# Altium footprint library Capacitors THD.PcbLib: 270 footprints (part 3 of 17)
Each footprint in its own frame and in the unit in brackets; x right, y up, seen from the top. Pads: shape width x height; smd on the part's side, far side on the other; paste and mask are expansions set on the pad; w line width, h text height; cw(c..) or ccw(c..) is an arc to the next point about the centre after c.
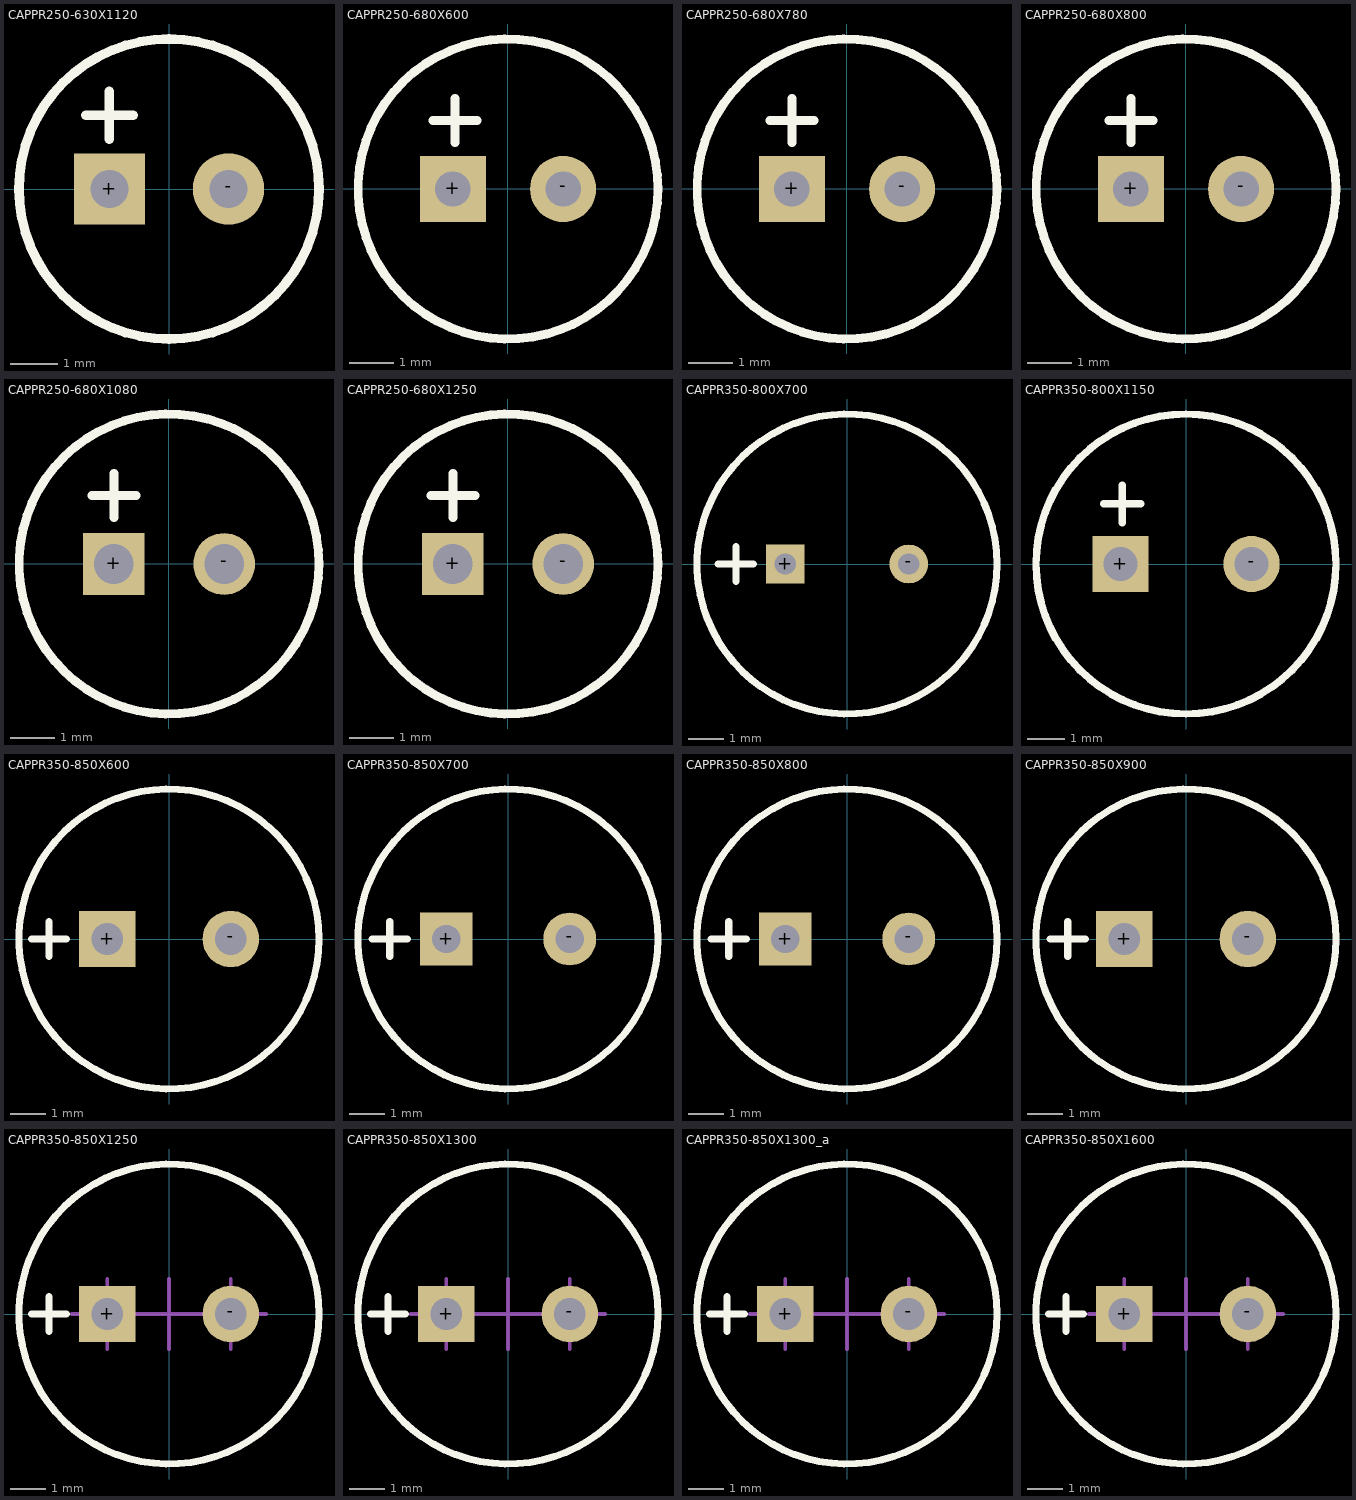
[diagram p2: the footprints below, top view; thin cyan lines are the x and y axes]

## CAPPR250-630X1120 [mm] "Capacitor, Radial, Pin spacing 2.5mm - Body Diameter 6.3mm X Body Height 11.2mm"
height 11.2
pads (2):
  rect 1.5x1.5 hole 0.8: +(-1.25,0)
  round 1.5 hole 0.8: -(1.25,0)
Top Overlay:
  circle w0.2: c0,0 r3.15
  lines w0.2: -1.75,1.55 -0.75,1.55 ; -1.25,1.05 -1.25,2.05
Mechanical 13:
  circle w0.1: c0,0 r3.15
Mechanical 14:
  circle w0.1: c0,0 r3.15
  lines w0.1: -1.75,1.55 -0.75,1.55 ; -1.25,1.05 -1.25,2.05
3D body "CAPPR250-630X1120.stp": height 11.2, standoff -3.6, extent -3.159,-3.159 3.141,3.107

## CAPPR250-680X600 [mm] "Capacitor, Radial, Pin spacing 2.5mm - Body Diameter 6.8mm X Body Height 6.0mm"
height 6
pads (2):
  rect 1.5x1.5 hole 0.8: +(-1.25,0)
  round 1.5 hole 0.8: -(1.25,0)
Top Overlay:
  circle w0.2: c0,0 r3.4
  lines w0.2: -1.7,1.55 -0.7,1.55 ; -1.2,1.05 -1.2,2.05
Mechanical 13:
  circle w0.1: c0,0 r3.4
Mechanical 14:
  circle w0.1: c0,0 r3.4
  lines w0.1: -1.7,1.55 -0.7,1.55 ; -1.2,1.05 -1.2,2.05
3D body "CAPPR250-680X600.stp": height 6, standoff -3.6, extent -3.41,-3.41 3.39,3.39

## CAPPR250-680X780 [mm] "Capacitor, Radial, Pin spacing 2.5mm - Body Diameter 6.8mm X Body Height 7.8mm"
height 7.8
pads (2):
  rect 1.5x1.5 hole 0.8: +(-1.25,0)
  round 1.5 hole 0.8: -(1.25,0)
Top Overlay:
  circle w0.2: c0,0 r3.4
  lines w0.2: -1.75,1.55 -0.75,1.55 ; -1.25,1.05 -1.25,2.05
Mechanical 13:
  circle w0.1: c0,0 r3.4
Mechanical 14:
  circle w0.1: c0,0 r3.4
  lines w0.1: -1.75,1.55 -0.75,1.55 ; -1.25,1.05 -1.25,2.05
3D body "CAPPR250-680X780.stp": height 7.8, standoff -3.6, extent -3.41,-3.41 3.39,3.39

## CAPPR250-680X800 [mm] "Capacitor, Radial, Pin spacing 2.5mm - Body Diameter 6.8mm X Body Height 7mm"
height 8
pads (2):
  rect 1.5x1.5 hole 0.8: +(-1.25,0)
  round 1.5 hole 0.8: -(1.25,0)
Top Overlay:
  circle w0.2: c0,0 r3.4
  lines w0.2: -1.75,1.55 -0.75,1.55 ; -1.25,1.05 -1.25,2.05
Mechanical 13:
  circle w0.1: c0,0 r3.4
Mechanical 14:
  circle w0.1: c0,0 r3.4
  lines w0.1: -1.75,1.55 -0.75,1.55 ; -1.25,1.05 -1.25,2.05
3D body "CAPPR250-680X800.stp": height 8, standoff -3.6, extent -3.4,-3.4 3.4,3.4

## CAPPR250-680X1080 [mm] "Capacitor, Radial, Pin spacing 2.5mm - Body Diameter 6.8mm X Body Height 10.8mm"
height 10.8
pads (2):
  rect 1.4x1.4 hole 0.9: +(-1.25,0)
  round 1.4 hole 0.9: -(1.25,0)
Top Overlay:
  circle w0.2: c0,0 r3.4
  lines w0.2: -1.75,1.55 -0.75,1.55 ; -1.25,1.05 -1.25,2.05
Mechanical 13:
  circle w0.1: c0,0 r3.4
Mechanical 14:
  circle w0.1: c0,0 r3.4
  lines w0.1: -1.75,1.55 -0.75,1.55 ; -1.25,1.05 -1.25,2.05
3D body "CAPPR250-680X1080.stp": height 10.8, standoff -3.6, extent -3.41,-3.41 3.39,3.39

## CAPPR250-680X1250 [mm] "Capacitor, Radial, Pin spacing 2.5mm - Body Diameter 6.8mm X Body Height 12.5mm"
height 12.5
pads (2):
  rect 1.4x1.4 hole 0.9: +(-1.25,0)
  round 1.4 hole 0.9: -(1.25,0)
Top Overlay:
  circle w0.2: c0,0 r3.4
  lines w0.2: -1.75,1.55 -0.75,1.55 ; -1.25,1.05 -1.25,2.05
Mechanical 13:
  circle w0.1: c0,0 r3.4
Mechanical 14:
  circle w0.1: c0,0 r3.4
  lines w0.1: -1.75,1.55 -0.75,1.55 ; -1.25,1.05 -1.25,2.05
3D body "CAPPR250-680X1250.stp": height 12.5, standoff -3.6, extent -3.41,-3.408 3.39,3.388

## CAPPR350-800X700 [mm] "Capacitor, Radial, Pin spacing 3.5mm - Body Diameter 8mm X Body Height 7mm"
height 7
pads (2):
  rect 1.1x1.1 hole 0.6: +(-1.75,0)
  round 1.1 hole 0.6: -(1.75,0)
Top Overlay:
  circle w0.2: c0,0 r4.25
  lines w0.2: -3.65,0 -2.65,0 ; -3.15,-0.5 -3.15,0.5
Mechanical 13:
  circle w0.1: c0,0 r4.25
Mechanical 14:
  circle w0.1: c0,0 r4.25
  lines w0.1: -3.65,0 -2.65,0 ; -3.15,-0.5 -3.15,0.5
3D body "CAPPR350-800X700.stp": height 7, standoff -3.6, extent -4.259,-4.259 4.241,4.233

## CAPPR350-800X1150 [mm] "Capacitor, Radial, Pin spacing 3.5mm - Body Diameter 8.0mm X Body Height 11.5mm"
height 11.5
pads (2):
  rect 1.5x1.5 hole 0.9: +(-1.75,0)
  round 1.5 hole 0.9: -(1.75,0)
Top Overlay:
  circle w0.2: c0,0 r4
  lines w0.2: -2.2,1.6 -1.2,1.6 ; -1.7,1.1 -1.7,2.1
Mechanical 13:
  circle w0.1: c0,0 r4
Mechanical 14:
  circle w0.1: c0,0 r4
  lines w0.1: -2.2,1.6 -1.2,1.6 ; -1.7,1.1 -1.7,2.1
3D body "CAPPR350-800X1150.stp": height 11.5, standoff -3.6, extent -4.012,-4.012 3.988,3.954

## CAPPR350-850X600 [mm] "Capacitor, Radial, Pin spacing 3.5mm - Body Diameter 8.5mm X Body Height 6.0mm"
height 6
pads (2):
  rect 1.6x1.6 hole 0.9: +(-1.75,0)
  round 1.6 hole 0.9: -(1.75,0)
Top Overlay:
  circle w0.2: c0,0 r4.25
  lines w0.2: -3.9,0 -2.9,0 ; -3.4,-0.5 -3.4,0.5
Mechanical 13:
  circle w0.1: c0,0 r4.25
Mechanical 14:
  circle w0.1: c0,0 r4.25
  lines w0.1: -3.9,0 -2.9,0 ; -3.4,-0.5 -3.4,0.5
3D body "CAPPR350-850X600.stp": height 6, standoff -3.6, extent -4.259,-4.259 4.241,4.241

## CAPPR350-850X700 [mm] "Capacitor, Radial, Pin spacing 3.5mm - Body Diameter 8.5mm x Body Height 7.0mm"
height 7
pads (2):
  rect 1.5x1.5 hole 0.8: +(-1.75,0)
  round 1.5 hole 0.8: -(1.75,0)
Top Overlay:
  circle w0.2: c0,0 r4.25
  lines w0.2: -3.85,0 -2.85,0 ; -3.35,-0.5 -3.35,0.5
Mechanical 8:
  circle w0.1: c-1.75,0 r0.225
  circle w0.1: c1.75,0 r0.225
  lines w0.1: -1.975,0 -1.75,0 -1.75,-0.225 ; 1.525,0 1.75,0 1.75,-0.225
Mechanical 14:
  circle w0.1: c0,0 r4.25
  lines w0.1: -3.85,0 -2.85,0 ; -3.35,-0.5 -3.35,0.5
3D body "CAPPR350-850X700.stp": height 7, standoff -3.6, extent -4.25,-4.25 4.25,4.242

## CAPPR350-850X800 [mm] "Capacitor, Radial, Pin spacing 3.5mm - Body Diameter 8.5mm x Body Height 8.0mm"
height 8
pads (2):
  rect 1.5x1.5 hole 0.8: +(-1.75,0)
  round 1.5 hole 0.8: -(1.75,0)
Top Overlay:
  circle w0.2: c0,0 r4.25
  lines w0.2: -3.85,0 -2.85,0 ; -3.35,-0.5 -3.35,0.5
Mechanical 8:
  circle w0.1: c1.75,0 r0.225
  circle w0.1: c-1.75,0 r0.225
  lines w0.1: -1.975,0 -1.75,0 -1.75,-0.225 ; 1.525,0 1.75,0 1.75,-0.225
Mechanical 14:
  circle w0.1: c0,0 r4.25
  lines w0.1: -3.85,0 -2.85,0 ; -3.35,-0.5 -3.35,0.5
3D body "CAPPR350-850X800.stp": height 8, standoff -3.6, extent -4.25,-4.25 4.25,4.25

## CAPPR350-850X900 [mm] "Capacitor, Radial, Pin spacing 3.5mm - Body Diameter 8.5mm x Body Height 9.0mm"
height 9
pads (2):
  rect 1.6x1.6 hole 0.9: +(-1.75,0)
  round 1.6 hole 0.9: -(1.75,0)
Top Overlay:
  circle w0.2: c0,0 r4.25
  lines w0.2: -3.85,0 -2.85,0 ; -3.35,-0.5 -3.35,0.5
Mechanical 8:
  circle w0.1: c-1.75,0 r0.225
  circle w0.1: c1.75,0 r0.225
  lines w0.1: -1.975,0 -1.75,0 -1.75,-0.225 ; 1.525,0 1.75,0 1.75,-0.225
Mechanical 14:
  circle w0.1: c0,0 r4.25
  lines w0.1: -3.85,0 -2.85,0 ; -3.35,-0.5 -3.35,0.5
3D body "CAPPR350-850X900.stp": height 9.5, standoff -3.6, extent -4.25,-4.25 4.25,4.25

## CAPPR350-850X1250 [mm] "Capacitor, Radial, Pin spacing 3.5mm - Body Diameter 8mm x Body Height 12mm"
height 12.5
pads (2):
  rect 1.6x1.6 hole 0.9: +(-1.75,0)
  round 1.6 hole 0.9: -(1.75,0)
Top Overlay:
  circle w0.2: c0,0 r4.25
  lines w0.2: -3.9,0 -2.9,0 ; -3.4,-0.5 -3.4,0.5
Mechanical 8:
  circle w0.1: c1.75,0 r0.225
  circle w0.1: c-1.75,0 r0.225
  lines w0.1: -2.75,0 -1.75,0 ; -1.975,0 -1.75,0 ; -1.75,-1 -1.75,0 ; -1.75,-0.225 -1.75,0 ; -1.75,1 -1.75,0 ; -1,0 0,0 ; -0.75,0 -1.75,0 ; 0,-1 0,0 ; 0,1 0,0 ; 0.75,0 1.75,0 ; 1,0 0,0 ; 1.525,0 1.75,0 ; 1.75,-1 1.75,0 ; 1.75,-0.225 1.75,0 ; 1.75,1 1.75,0 ; 2.75,0 1.75,0
Mechanical 14:
  circle w0.1: c0,0 r4.25
  lines w0.1: -3.9,0 -2.9,0 ; -3.4,-0.5 -3.4,0.5
3D body "CAPPR350-850X1250.stp": height 12.5, standoff -3.6, extent -4.25,-4.246 4.25,4.246

## CAPPR350-850X1300 [mm] "Capacitor, Radial, Pin spacing 3.5mm - Body Diameter 8.5mm x Body Height 13mm"
height 13
pads (2):
  rect 1.6x1.6 hole 0.9: +(-1.75,0)
  round 1.6 hole 0.9: -(1.75,0)
Top Overlay:
  circle w0.2: c0,0 r4.25
  lines w0.2: -3.9,0 -2.9,0 ; -3.4,-0.5 -3.4,0.5
Mechanical 8:
  circle w0.1: c1.75,0 r0.225
  circle w0.1: c-1.75,0 r0.225
  lines w0.1: -2.75,0 -1.75,0 ; -1.975,0 -1.75,0 ; -1.75,-1 -1.75,0 ; -1.75,-0.225 -1.75,0 ; -1.75,1 -1.75,0 ; -1,0 0,0 ; -0.75,0 -1.75,0 ; 0,-1 0,0 ; 0,1 0,0 ; 0.75,0 1.75,0 ; 1,0 0,0 ; 1.525,0 1.75,0 ; 1.75,-1 1.75,0 ; 1.75,-0.225 1.75,0 ; 1.75,1 1.75,0 ; 2.75,0 1.75,0
Mechanical 14:
  circle w0.1: c0,0 r4.25
  lines w0.1: -3.9,0 -2.9,0 ; -3.4,-0.5 -3.4,0.5
3D body "CAPPR350-850X1300.stp": height 13, standoff -3.6, extent -4.25,-4.246 4.25,4.246

## CAPPR350-850X1300_a [mm] "Capacitor, Radial, Pin spacing 3.5mm - Body Diameter 8.5mm x Body Height 13mm"
height 13
pads (2):
  rect 1.6x1.6 hole 0.9: +(-1.75,0)
  round 1.6 hole 0.9: -(1.75,0)
Top Overlay:
  circle w0.2: c0,0 r4.25
  lines w0.2: -3.9,0 -2.9,0 ; -3.4,-0.5 -3.4,0.5
Mechanical 8:
  circle w0.1: c1.75,0 r0.225
  circle w0.1: c-1.75,0 r0.225
  lines w0.1: -2.75,0 -1.75,0 ; -1.975,0 -1.75,0 ; -1.75,-1 -1.75,0 ; -1.75,-0.225 -1.75,0 ; -1.75,1 -1.75,0 ; -1,0 0,0 ; -0.75,0 -1.75,0 ; 0,-1 0,0 ; 0,1 0,0 ; 0.75,0 1.75,0 ; 1,0 0,0 ; 1.525,0 1.75,0 ; 1.75,-1 1.75,0 ; 1.75,-0.225 1.75,0 ; 1.75,1 1.75,0 ; 2.75,0 1.75,0
Mechanical 14:
  circle w0.1: c0,0 r4.25
  lines w0.1: -3.9,0 -2.9,0 ; -3.4,-0.5 -3.4,0.5
3D body "CAPPR350-850X1300_a.stp": height 13, standoff -3.6, extent -4.25,-4.25 4.25,4.25

## CAPPR350-850X1600 [mm] "Capacitor, Radial, Pin spacing 3.5mm - Body Diameter 8.5mm x Body Height 16mm"
height 16
pads (2):
  rect 1.6x1.6 hole 0.9: +(-1.75,0)
  round 1.6 hole 0.9: -(1.75,0)
Top Overlay:
  circle w0.2: c0,0 r4.25
  lines w0.2: -3.9,0 -2.9,0 ; -3.4,-0.5 -3.4,0.5
Mechanical 8:
  circle w0.1: c1.75,0 r0.225
  circle w0.1: c-1.75,0 r0.225
  lines w0.1: -2.75,0 -1.75,0 ; -1.975,0 -1.75,0 ; -1.75,-1 -1.75,0 ; -1.75,-0.225 -1.75,0 ; -1.75,1 -1.75,0 ; -1,0 0,0 ; -0.75,0 -1.75,0 ; 0,-1 0,0 ; 0,1 0,0 ; 0.75,0 1.75,0 ; 1,0 0,0 ; 1.525,0 1.75,0 ; 1.75,-1 1.75,0 ; 1.75,-0.225 1.75,0 ; 1.75,1 1.75,0 ; 2.75,0 1.75,0
Mechanical 14:
  circle w0.1: c0,0 r4.25
  lines w0.1: -3.9,0 -2.9,0 ; -3.4,-0.5 -3.4,0.5
3D body "CAPPR350-850X1600.stp": height 16, standoff -3.6, extent -4.25,-4.248 4.248,4.249